# EAGLE library part AXP209 (library kmod-testing)
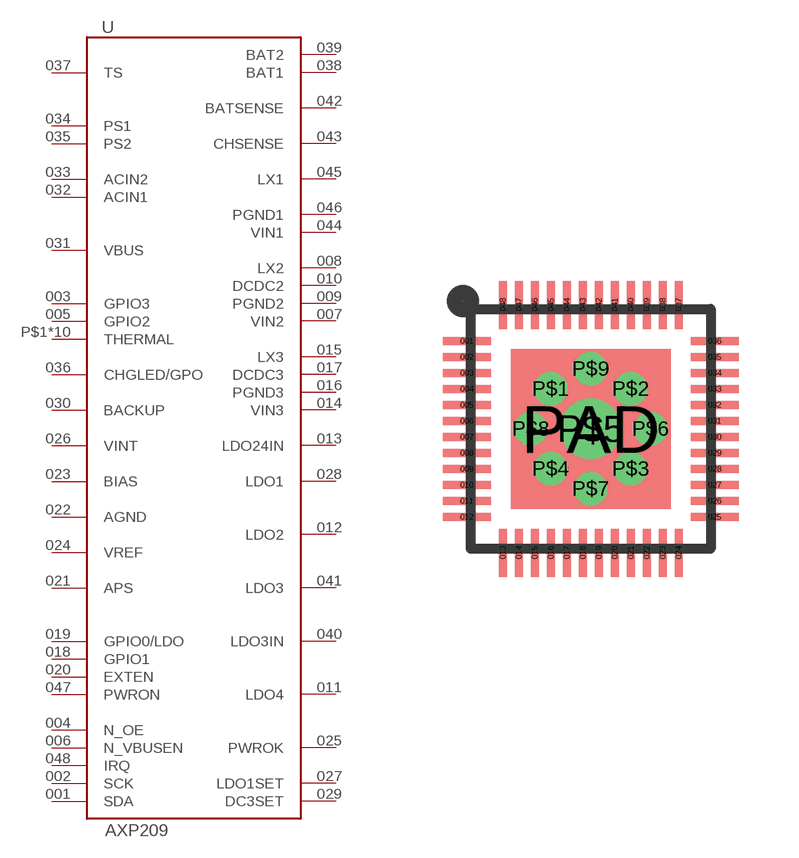
[diagram p13: symbol with the pads of QFN48; footprint QFN48]

Designator prefix -

## AXP209  [QFN48]
001  SDA
002  SCK
003  GPIO3
004  N_OE
005  GPIO2
006  N_VBUSEN
007  VIN2
008  LX2
009  PGND2
010  DCDC2
011  LDO4
012  LDO2
013  LDO24IN
014  VIN3
015  LX3
016  PGND3
017  DCDC3
018  GPIO1
019  GPIO0/LDO
020  EXTEN
021  APS
022  AGND
023  BIAS
024  VREF
025  PWROK
026  VINT
027  LDO1SET
028  LDO1
029  DC3SET
030  BACKUP
031  VBUS
032  ACIN1
033  ACIN2
034  PS1
035  PS2
036  CHGLED/GPO
037  TS
038  BAT1
039  BAT2
040  LDO3IN
041  LDO3
042  BATSENSE
043  CHSENSE
044  VIN1
045  LX1
046  PGND1
047  PWRON
048  IRQ
P$1  THERMAL
P$2  THERMAL
P$3  THERMAL
P$4  THERMAL
P$5  THERMAL
P$6  THERMAL
P$7  THERMAL
P$8  THERMAL
P$9  THERMAL
PAD  THERMAL

## Footprint QFN48 (pad centres in mm)
48-pin, 0.4mm-pitch QFN Generated with gen_qfp.py with the following parameters: PAD_LENGTH = 1.2 PAD_PAST_END = 0.7 LEAD_INNER_WIDTH = 5.2 LEAD_OUTER_WIDTH = 6.0 LEAD_WIDTH = 0.2
smd 1.2 x 0.2: 001 -3.1,2.2; 002 -3.1,1.8; 003 -3.1,1.4; 004 -3.1,1; 005 -3.1,0.6; 006 -3.1,0.2; 007 -3.1,-0.2; 008 -3.1,-0.6; 009 -3.1,-1; 010 -3.1,-1.4; 011 -3.1,-1.8; 012 -3.1,-2.2; 025 3.1,-2.2; 026 3.1,-1.8; 027 3.1,-1.4; 028 3.1,-1; 029 3.1,-0.6; 030 3.1,-0.2; 031 3.1,0.2; 032 3.1,0.6; 033 3.1,1; 034 3.1,1.4; 035 3.1,1.8; 036 3.1,2.2
smd 0.2 x 1.2: 013 -2.2,-3.1; 014 -1.8,-3.1; 015 -1.4,-3.1; 016 -1,-3.1; 017 -0.6,-3.1; 018 -0.2,-3.1; 019 0.2,-3.1; 020 0.6,-3.1; 021 1,-3.1; 022 1.4,-3.1; 023 1.8,-3.1; 024 2.2,-3.1; 037 2.2,3.1; 038 1.8,3.1; 039 1.4,3.1; 040 1,3.1; 041 0.6,3.1; 042 0.2,3.1; 043 -0.2,3.1; 044 -0.6,3.1; 045 -1,3.1; 046 -1.4,3.1; 047 -1.8,3.1; 048 -2.2,3.1
drill 0.33: P$1 -1,1; P$2 1,1; P$3 1,-1; P$4 -1,-1; P$6 1.5,0; P$7 0,-1.5; P$8 -1.5,0; P$9 0,1.5
drill 1: P$5 0,0
smd 4 x 4: PAD 0,0